# Altium footprint library Con CompactPCI.PcbLib: 33 footprints (part 2 of 3)
Each footprint in its own frame and in the unit in brackets; x right, y up, seen from the top. Pads: shape width x height; smd on the part's side, far side on the other; paste and mask are expansions set on the pad; w line width, h text height; cw(c..) or ccw(c..) is an arc to the next point about the centre after c.
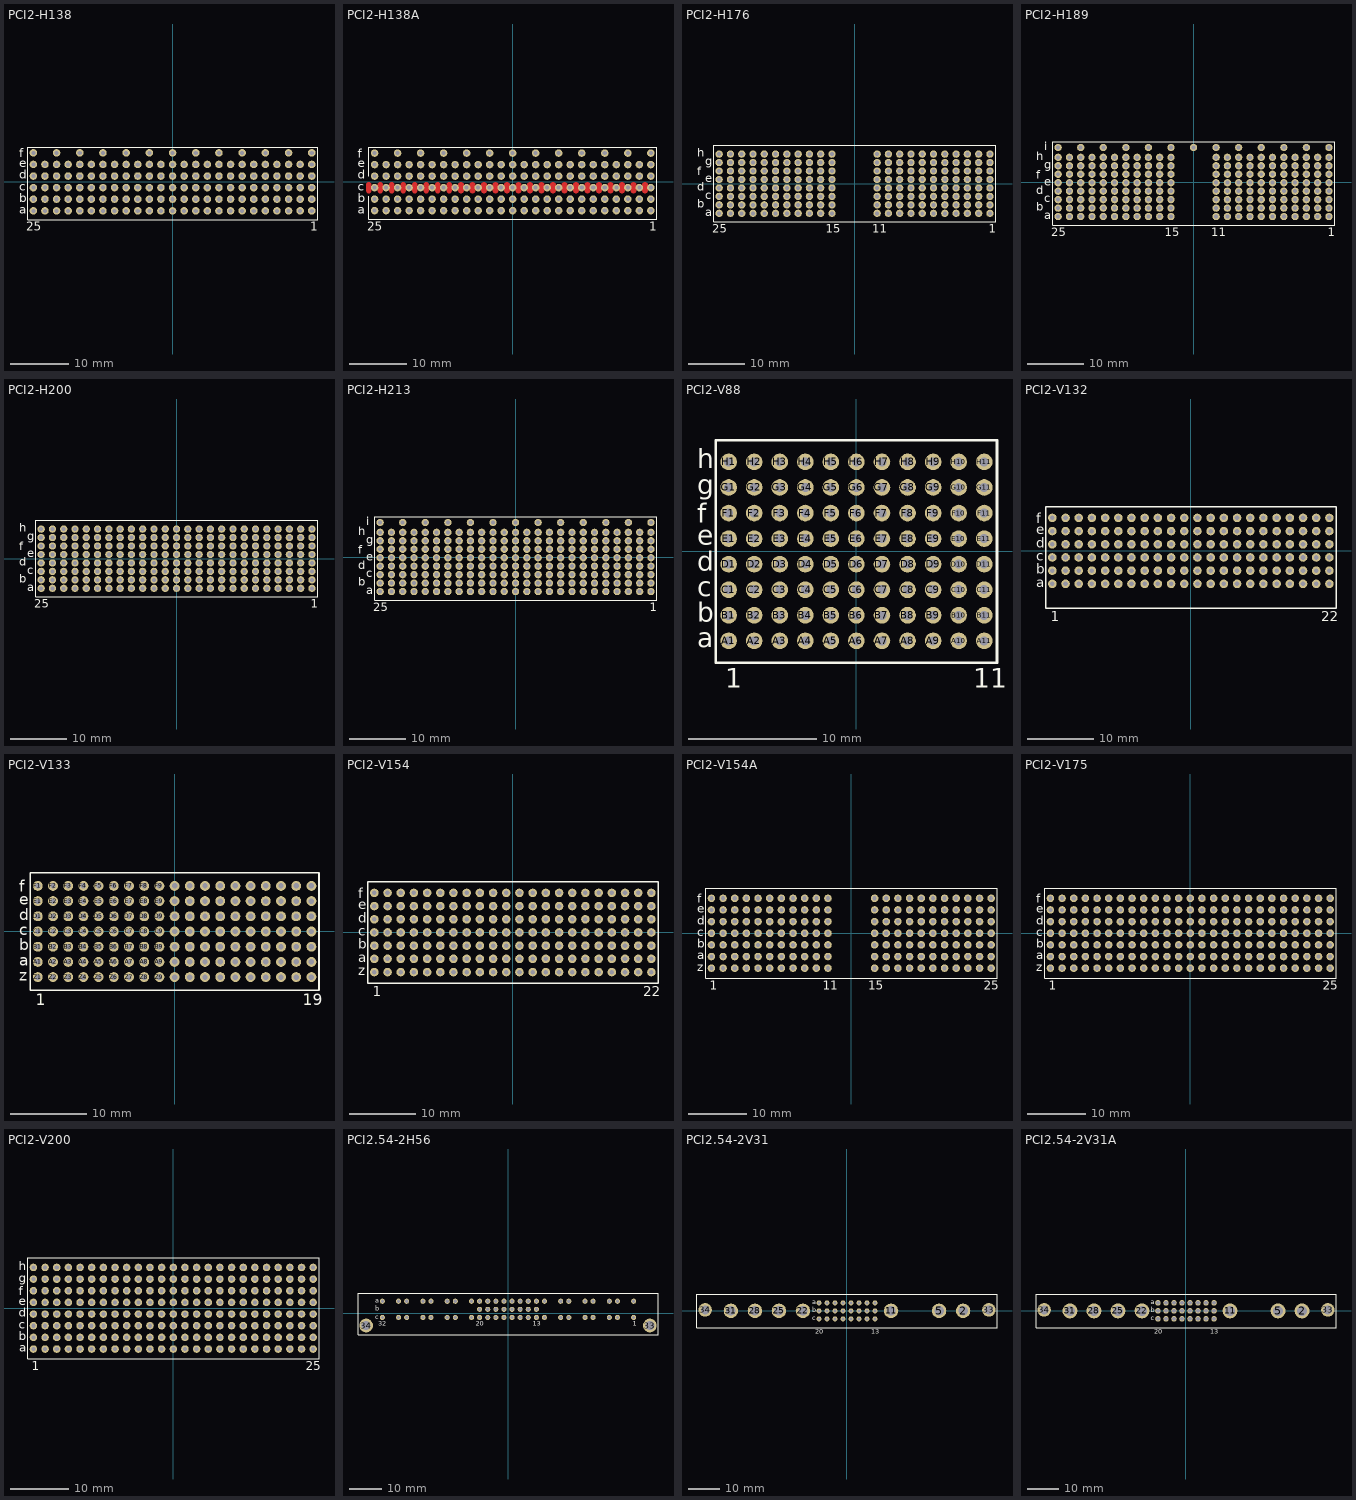
[diagram p1: the footprints below, top view; thin cyan lines are the x and y axes]

## PCI2-H138 [mm] "Connector; CompactPCI; 125 Position; Right Angle"
height 8.13
pads (138):
  round 1.3 hole 0.7: A1(24,-5) A2(22,-5) A3(20,-5) A4(18,-5) A5(16,-5) A6(14,-5) A7(12,-5) A8(10,-5) A9(8,-5) A10(6,-5) A11(4,-5) A12(2,-5) A13(0,-5) A14(-2,-5) A15(-4,-5) A16(-6,-5) A17(-8,-5) A18(-10,-5) A19(-12,-5) A20(-14,-5) A21(-16,-5) A22(-18,-5) A23(-20,-5) A24(-22,-5) A25(-24,-5) B1(24,-3) B2(22,-3) B3(20,-3) B4(18,-3) B5(16,-3) B6(14,-3) B7(12,-3) B8(10,-3) B9(8,-3) B10(6,-3) B11(4,-3) B12(2,-3) B13(0,-3) B14(-2,-3) B15(-4,-3) B16(-6,-3) B17(-8,-3) B18(-10,-3) B19(-12,-3) B20(-14,-3) B21(-16,-3) B22(-18,-3) B23(-20,-3) B24(-22,-3) B25(-24,-3) C1(24,-1) C2(22,-1) C3(20,-1) C4(18,-1) C5(16,-1) C6(14,-1) C7(12,-1) C8(10,-1) C9(8,-1) C10(6,-1) C11(4,-1) C12(2,-1) C13(0,-1) C14(-2,-1) C15(-4,-1) C16(-6,-1) C17(-8,-1) C18(-10,-1) C19(-12,-1) C20(-14,-1) C21(-16,-1) C22(-18,-1) C23(-20,-1) C24(-22,-1) C25(-24,-1) D1(24,1) D2(22,1) D3(20,1) D4(18,1) D5(16,1) D6(14,1) D7(12,1) D8(10,1) D9(8,1) D10(6,1) D11(4,1) D12(2,1) D13(0,1) D14(-2,1) D15(-4,1) D16(-6,1) D17(-8,1) D18(-10,1) D19(-12,1) D20(-14,1) D21(-16,1) D22(-18,1) D23(-20,1) D24(-22,1) D25(-24,1) E1(24,3) E2(22,3) E3(20,3) E4(18,3) E5(16,3) E6(14,3) E7(12,3) E8(10,3) E9(8,3) E10(6,3) E11(4,3) E12(2,3) E13(0,3) E14(-2,3) E15(-4,3) E16(-6,3) E17(-8,3) E18(-10,3) E19(-12,3) E20(-14,3) E21(-16,3) E22(-18,3) E23(-20,3) E24(-22,3) E25(-24,3) F1(24,5) F3(20,5) F5(16,5) F7(12,5) F9(8,5) F11(4,5) F13(0,5) F15(-4,5) F17(-8,5) F19(-12,5) F21(-16,5) F23(-20,5) F25(-24,5)
Top Overlay:
  lines w0.2: -25,-6.5 -25,6 25,6 25,-6.5 -25,-6.5
  text "25" at -25.25,-8.475 h1.5
  text "1" at 23.75,-8.475 h1.5
  text "e" at -26.475,2.5 h1.5
  text "d" at -26.475,0.5 h1.5
  text "c" at -26.475,-1.5 h1.5
  text "b" at -26.475,-3.5 h1.5
  text "a" at -26.475,-5.5 h1.5
  text "f" at -26.475,4.225 h1.5

## PCI2-H138A [mm] "Connector; CompactPCI; 125 Position; Right Angle"
height 8.13
pads (138):
  round 1.3 hole 0.7: A1(24,-5) A2(22,-5) A3(20,-5) A4(18,-5) A5(16,-5) A6(14,-5) A7(12,-5) A8(10,-5) A9(8,-5) A10(6,-5) A11(4,-5) A12(2,-5) A13(0,-5) A14(-2,-5) A15(-4,-5) A16(-6,-5) A17(-8,-5) A18(-10,-5) A19(-12,-5) A20(-14,-5) A21(-16,-5) A22(-18,-5) A23(-20,-5) A24(-22,-5) A25(-24,-5) B1(24,-3) B2(22,-3) B3(20,-3) B4(18,-3) B5(16,-3) B6(14,-3) B7(12,-3) B8(10,-3) B9(8,-3) B10(6,-3) B11(4,-3) B12(2,-3) B13(0,-3) B14(-2,-3) B15(-4,-3) B16(-6,-3) B17(-8,-3) B18(-10,-3) B19(-12,-3) B20(-14,-3) B21(-16,-3) B22(-18,-3) B23(-20,-3) B24(-22,-3) B25(-24,-3) C1(24,-1) C2(22,-1) C3(20,-1) C4(18,-1) C5(16,-1) C6(14,-1) C7(12,-1) C8(10,-1) C9(8,-1) C10(6,-1) C11(4,-1) C12(2,-1) C13(0,-1) C14(-2,-1) C15(-4,-1) C16(-6,-1) C17(-8,-1) C18(-10,-1) C19(-12,-1) C20(-14,-1) C21(-16,-1) C22(-18,-1) C23(-20,-1) C24(-22,-1) C25(-24,-1) D1(24,1) D2(22,1) D3(20,1) D4(18,1) D5(16,1) D6(14,1) D7(12,1) D8(10,1) D9(8,1) D10(6,1) D11(4,1) D12(2,1) D13(0,1) D14(-2,1) D15(-4,1) D16(-6,1) D17(-8,1) D18(-10,1) D19(-12,1) D20(-14,1) D21(-16,1) D22(-18,1) D23(-20,1) D24(-22,1) D25(-24,1) E1(24,3) E2(22,3) E3(20,3) E4(18,3) E5(16,3) E6(14,3) E7(12,3) E8(10,3) E9(8,3) E10(6,3) E11(4,3) E12(2,3) E13(0,3) E14(-2,3) E15(-4,3) E16(-6,3) E17(-8,3) E18(-10,3) E19(-12,3) E20(-14,3) E21(-16,3) E22(-18,3) E23(-20,3) E24(-22,3) E25(-24,3) F1(24,5) F3(20,5) F5(16,5) F7(12,5) F9(8,5) F11(4,5) F13(0,5) F15(-4,5) F17(-8,5) F19(-12,5) F21(-16,5) F23(-20,5) F25(-24,5)
Top Layer:
  lines w1: -25,-1.5 -25,-0.5 ; -23,-1.5 -23,-0.5 ; -21,-1.5 -21,-0.5 ; -19,-1.5 -19,-0.5 ; -17,-1.5 -17,-0.5 ; -15,-1.5 -15,-0.5 ; -13,-1.5 -13,-0.5 ; -11,-1.5 -11,-0.5 ; -9,-1.5 -9,-0.5 ; -7,-1.5 -7,-0.5 ; -5,-1.5 -5,-0.5 ; -3,-1.5 -3,-0.5 ; -1,-1.5 -1,-0.5 ; 1,-1.5 1,-0.5 ; 3,-1.5 3,-0.5 ; 5,-1.5 5,-0.5 ; 7,-1.5 7,-0.5 ; 9,-1.5 9,-0.5 ; 11,-1.5 11,-0.5 ; 13,-1.5 13,-0.5 ; 15,-1.5 15,-0.5 ; 17,-1.5 17,-0.5 ; 19,-1.5 19,-0.5 ; 21,-1.5 21,-0.5 ; 23,-1.5 23,-0.5
Top Overlay:
  lines w0.2: -25,-2.5 -25,-6.5 25,-6.5 25,6 -25,6 -25,1
  text "f" at -26.875,4.225 h1.5
  text "a" at -26.875,-5.5 h1.5
  text "b" at -26.875,-3.5 h1.5
  text "c" at -26.875,-1.5 h1.5
  text "d" at -26.875,0.5 h1.5
  text "e" at -26.875,2.5 h1.5
  text "1" at 23.75,-8.475 h1.5
  text "25" at -25.25,-8.475 h1.5

## PCI2-H176 [mm] "Connector; CompactPCI; 176 Position; Right Angle"
height 14.2
pads (176):
  round 1.3 hole 0.7: A1(24,-5.25) A2(22,-5.25) A3(20,-5.25) A4(18,-5.25) A5(16,-5.25) A6(14,-5.25) A7(12,-5.25) A8(10,-5.25) A9(8,-5.25) A10(6,-5.25) A11(4,-5.25) A15(-4,-5.25) A16(-6,-5.25) A17(-8,-5.25) A18(-10,-5.25) A19(-12,-5.25) A20(-14,-5.25) A21(-16,-5.25) A22(-18,-5.25) A23(-20,-5.25) A24(-22,-5.25) A25(-24,-5.25) B1(24,-3.75) B2(22,-3.75) B3(20,-3.75) B4(18,-3.75) B5(16,-3.75) B6(14,-3.75) B7(12,-3.75) B8(10,-3.75) B9(8,-3.75) B10(6,-3.75) B11(4,-3.75) B15(-4,-3.75) B16(-6,-3.75) B17(-8,-3.75) B18(-10,-3.75) B19(-12,-3.75) B20(-14,-3.75) B21(-16,-3.75) B22(-18,-3.75) B23(-20,-3.75) B24(-22,-3.75) B25(-24,-3.75) C1(24,-2.25) C2(22,-2.25) C3(20,-2.25) C4(18,-2.25) C5(16,-2.25) C6(14,-2.25) C7(12,-2.25) C8(10,-2.25) C9(8,-2.25) C10(6,-2.25) C11(4,-2.25) C15(-4,-2.25) C16(-6,-2.25) C17(-8,-2.25) C18(-10,-2.25) C19(-12,-2.25) C20(-14,-2.25) C21(-16,-2.25) C22(-18,-2.25) C23(-20,-2.25) C24(-22,-2.25) C25(-24,-2.25) D1(24,-0.75) D2(22,-0.75) D3(20,-0.75) D4(18,-0.75) D5(16,-0.75) D6(14,-0.75) D7(12,-0.75) D8(10,-0.75) D9(8,-0.75) D10(6,-0.75) D11(4,-0.75) D15(-4,-0.75) D16(-6,-0.75) D17(-8,-0.75) D18(-10,-0.75) D19(-12,-0.75) D20(-14,-0.75) D21(-16,-0.75) D22(-18,-0.75) D23(-20,-0.75) D24(-22,-0.75) D25(-24,-0.75) E1(24,0.75) E2(22,0.75) E3(20,0.75) E4(18,0.75) E5(16,0.75) E6(14,0.75) E7(12,0.75) E8(10,0.75) E9(8,0.75) E10(6,0.75) E11(4,0.75) E15(-4,0.75) E16(-6,0.75) E17(-8,0.75) E18(-10,0.75) E19(-12,0.75) E20(-14,0.75) E21(-16,0.75) E22(-18,0.75) E23(-20,0.75) E24(-22,0.75) E25(-24,0.75) F1(24,2.25) F2(22,2.25) F3(20,2.25) F4(18,2.25) F5(16,2.25) F6(14,2.25) F7(12,2.25) F8(10,2.25) F9(8,2.25) F10(6,2.25) F11(4,2.25) F15(-4,2.25) F16(-6,2.25) F17(-8,2.25) F18(-10,2.25) F19(-12,2.25) F20(-14,2.25) F21(-16,2.25) F22(-18,2.25) F23(-20,2.25) F24(-22,2.25) F25(-24,2.25) G1(24,3.75) G2(22,3.75) G3(20,3.75) G4(18,3.75) G5(16,3.75) G6(14,3.75) G7(12,3.75) G8(10,3.75) G9(8,3.75) G10(6,3.75) G11(4,3.75) G15(-4,3.75) G16(-6,3.75) G17(-8,3.75) G18(-10,3.75) G19(-12,3.75) G20(-14,3.75) G21(-16,3.75) G22(-18,3.75) G23(-20,3.75) G24(-22,3.75) G25(-24,3.75) H1(24,5.25) H2(22,5.25) H3(20,5.25) H4(18,5.25) H5(16,5.25) H6(14,5.25) H7(12,5.25) H8(10,5.25) H9(8,5.25) H10(6,5.25) H11(4,5.25) H15(-4,5.25) H16(-6,5.25) H17(-8,5.25) H18(-10,5.25) H19(-12,5.25) H20(-14,5.25) H21(-16,5.25) H22(-18,5.25) H23(-20,5.25) H24(-22,5.25) H25(-24,5.25)
Top Overlay:
  lines w0.2: -25,-6.75 -25,6.85 25,6.85 25,-6.75 -25,-6.75
  text "a" at -26.475,-5.75 h1.5
  text "b" at -27.925,-4.25 h1.5
  text "c" at -26.475,-2.75 h1.5
  text "e" at -26.475,0.25 h1.5
  text "g" at -26.475,3.237 h1.5
  text "d" at -27.925,-1.25 h1.5
  text "f" at -27.925,1.475 h1.5
  text "h" at -27.925,4.75 h1.5
  text "11" at 3.125,-8.725 h1.5
  text "1" at 23.75,-8.725 h1.5
  text "15" at -5.125,-8.725 h1.5
  text "25" at -25.25,-8.725 h1.5

## PCI2-H189 [mm] "Connector; CompactPCI; 176 Position; Right Angle"
height 14.2
pads (189):
  round 1.3 hole 0.7: A1(24,-6.125) A2(22,-6.125) A3(20,-6.125) A4(18,-6.125) A5(16,-6.125) A6(14,-6.125) A7(12,-6.125) A8(10,-6.125) A9(8,-6.125) A10(6,-6.125) A11(4,-6.125) A15(-4,-6.125) A16(-6,-6.125) A17(-8,-6.125) A18(-10,-6.125) A19(-12,-6.125) A20(-14,-6.125) A21(-16,-6.125) A22(-18,-6.125) A23(-20,-6.125) A24(-22,-6.125) A25(-24,-6.125) B1(24,-4.625) B2(22,-4.625) B3(20,-4.625) B4(18,-4.625) B5(16,-4.625) B6(14,-4.625) B7(12,-4.625) B8(10,-4.625) B9(8,-4.625) B10(6,-4.625) B11(4,-4.625) B15(-4,-4.625) B16(-6,-4.625) B17(-8,-4.625) B18(-10,-4.625) B19(-12,-4.625) B20(-14,-4.625) B21(-16,-4.625) B22(-18,-4.625) B23(-20,-4.625) B24(-22,-4.625) B25(-24,-4.625) C1(24,-3.125) C2(22,-3.125) C3(20,-3.125) C4(18,-3.125) C5(16,-3.125) C6(14,-3.125) C7(12,-3.125) C8(10,-3.125) C9(8,-3.125) C10(6,-3.125) C11(4,-3.125) C15(-4,-3.125) C16(-6,-3.125) C17(-8,-3.125) C18(-10,-3.125) C19(-12,-3.125) C20(-14,-3.125) C21(-16,-3.125) C22(-18,-3.125) C23(-20,-3.125) C24(-22,-3.125) C25(-24,-3.125) D1(24,-1.625) D2(22,-1.625) D3(20,-1.625) D4(18,-1.625) D5(16,-1.625) D6(14,-1.625) D7(12,-1.625) D8(10,-1.625) D9(8,-1.625) D10(6,-1.625) D11(4,-1.625) D15(-4,-1.625) D16(-6,-1.625) D17(-8,-1.625) D18(-10,-1.625) D19(-12,-1.625) D20(-14,-1.625) D21(-16,-1.625) D22(-18,-1.625) D23(-20,-1.625) D24(-22,-1.625) D25(-24,-1.625) E1(24,-0.125) E2(22,-0.125) E3(20,-0.125) E4(18,-0.125) E5(16,-0.125) E6(14,-0.125) E7(12,-0.125) E8(10,-0.125) E9(8,-0.125) E10(6,-0.125) E11(4,-0.125) E15(-4,-0.125) E16(-6,-0.125) E17(-8,-0.125) E18(-10,-0.125) E19(-12,-0.125) E20(-14,-0.125) E21(-16,-0.125) E22(-18,-0.125) E23(-20,-0.125) E24(-22,-0.125) E25(-24,-0.125) F1(24,1.375) F2(22,1.375) F3(20,1.375) F4(18,1.375) F5(16,1.375) F6(14,1.375) F7(12,1.375) F8(10,1.375) F9(8,1.375) F10(6,1.375) F11(4,1.375) F15(-4,1.375) F16(-6,1.375) F17(-8,1.375) F18(-10,1.375) F19(-12,1.375) F20(-14,1.375) F21(-16,1.375) F22(-18,1.375) F23(-20,1.375) F24(-22,1.375) F25(-24,1.375) G1(24,2.875) G2(22,2.875) G3(20,2.875) G4(18,2.875) G5(16,2.875) G6(14,2.875) G7(12,2.875) G8(10,2.875) G9(8,2.875) G10(6,2.875) G11(4,2.875) G15(-4,2.875) G16(-6,2.875) G17(-8,2.875) G18(-10,2.875) G19(-12,2.875) G20(-14,2.875) G21(-16,2.875) G22(-18,2.875) G23(-20,2.875) G24(-22,2.875) G25(-24,2.875) H1(24,4.375) H2(22,4.375) H3(20,4.375) H4(18,4.375) H5(16,4.375) H6(14,4.375) H7(12,4.375) H8(10,4.375) H9(8,4.375) H10(6,4.375) H11(4,4.375) H15(-4,4.375) H16(-6,4.375) H17(-8,4.375) H18(-10,4.375) H19(-12,4.375) H20(-14,4.375) H21(-16,4.375) H22(-18,4.375) H23(-20,4.375) H24(-22,4.375) H25(-24,4.375) I1(24,6.125) I3(20,6.125) I5(16,6.125) I7(12,6.125) I9(8,6.125) I11(4,6.125) I13(0,6.125) I15(-4,6.125) I17(-8,6.125) I19(-12,6.125) I21(-16,6.125) I23(-20,6.125) I25(-24,6.125)
Top Overlay:
  lines w0.2: -25,-7.625 -25,7.105 25,7.105 25,-7.625 -25,-7.625
  text "i" at -26.475,5.625 h1.5
  text "a" at -26.475,-6.625 h1.5
  text "b" at -27.925,-5.125 h1.5
  text "c" at -26.475,-3.625 h1.5
  text "e" at -26.475,-0.625 h1.5
  text "g" at -26.475,2.363 h1.5
  text "d" at -27.925,-2.125 h1.5
  text "f" at -27.925,0.6 h1.5
  text "h" at -27.925,3.875 h1.5
  text "11" at 3.125,-9.6 h1.5
  text "1" at 23.75,-9.6 h1.5
  text "15" at -5.125,-9.6 h1.5
  text "25" at -25.25,-9.6 h1.5

## PCI2-H200 [mm] "Connector; CompactPCI; 200 Position; Right Angle"
height 13.7
pads (200):
  round 1.3 hole 0.7: A1(24,-5.25) A2(22,-5.25) A3(20,-5.25) A4(18,-5.25) A5(16,-5.25) A6(14,-5.25) A7(12,-5.25) A8(10,-5.25) A9(8,-5.25) A10(6,-5.25) A11(4,-5.25) A12(2,-5.25) A13(0,-5.25) A14(-2,-5.25) A15(-4,-5.25) A16(-6,-5.25) A17(-8,-5.25) A18(-10,-5.25) A19(-12,-5.25) A20(-14,-5.25) A21(-16,-5.25) A22(-18,-5.25) A23(-20,-5.25) A24(-22,-5.25) A25(-24,-5.25) B1(24,-3.75) B2(22,-3.75) B3(20,-3.75) B4(18,-3.75) B5(16,-3.75) B6(14,-3.75) B7(12,-3.75) B8(10,-3.75) B9(8,-3.75) B10(6,-3.75) B11(4,-3.75) B12(2,-3.75) B13(0,-3.75) B14(-2,-3.75) B15(-4,-3.75) B16(-6,-3.75) B17(-8,-3.75) B18(-10,-3.75) B19(-12,-3.75) B20(-14,-3.75) B21(-16,-3.75) B22(-18,-3.75) B23(-20,-3.75) B24(-22,-3.75) B25(-24,-3.75) C1(24,-2.25) C2(22,-2.25) C3(20,-2.25) C4(18,-2.25) C5(16,-2.25) C6(14,-2.25) C7(12,-2.25) C8(10,-2.25) C9(8,-2.25) C10(6,-2.25) C11(4,-2.25) C12(2,-2.25) C13(0,-2.25) C14(-2,-2.25) C15(-4,-2.25) C16(-6,-2.25) C17(-8,-2.25) C18(-10,-2.25) C19(-12,-2.25) C20(-14,-2.25) C21(-16,-2.25) C22(-18,-2.25) C23(-20,-2.25) C24(-22,-2.25) C25(-24,-2.25) D1(24,-0.75) D2(22,-0.75) D3(20,-0.75) D4(18,-0.75) D5(16,-0.75) D6(14,-0.75) D7(12,-0.75) D8(10,-0.75) D9(8,-0.75) D10(6,-0.75) D11(4,-0.75) D12(2,-0.75) D13(0,-0.75) D14(-2,-0.75) D15(-4,-0.75) D16(-6,-0.75) D17(-8,-0.75) D18(-10,-0.75) D19(-12,-0.75) D20(-14,-0.75) D21(-16,-0.75) D22(-18,-0.75) D23(-20,-0.75) D24(-22,-0.75) D25(-24,-0.75) E1(24,0.75) E2(22,0.75) E3(20,0.75) E4(18,0.75) E5(16,0.75) E6(14,0.75) E7(12,0.75) E8(10,0.75) E9(8,0.75) E10(6,0.75) E11(4,0.75) E12(2,0.75) E13(0,0.75) E14(-2,0.75) E15(-4,0.75) E16(-6,0.75) E17(-8,0.75) E18(-10,0.75) E19(-12,0.75) E20(-14,0.75) E21(-16,0.75) E22(-18,0.75) E23(-20,0.75) E24(-22,0.75) E25(-24,0.75) F1(24,2.25) F2(22,2.25) F3(20,2.25) F4(18,2.25) F5(16,2.25) F6(14,2.25) F7(12,2.25) F8(10,2.25) F9(8,2.25) F10(6,2.25) F11(4,2.25) F12(2,2.25) F13(0,2.25) F14(-2,2.25) F15(-4,2.25) F16(-6,2.25) F17(-8,2.25) F18(-10,2.25) F19(-12,2.25) F20(-14,2.25) F21(-16,2.25) F22(-18,2.25) F23(-20,2.25) F24(-22,2.25) F25(-24,2.25) G1(24,3.75) G2(22,3.75) G3(20,3.75) G4(18,3.75) G5(16,3.75) G6(14,3.75) G7(12,3.75) G8(10,3.75) G9(8,3.75) G10(6,3.75) G11(4,3.75) G12(2,3.75) G13(0,3.75) G14(-2,3.75) G15(-4,3.75) G16(-6,3.75) G17(-8,3.75) G18(-10,3.75) G19(-12,3.75) G20(-14,3.75) G21(-16,3.75) G22(-18,3.75) G23(-20,3.75) G24(-22,3.75) G25(-24,3.75) H1(24,5.25) H2(22,5.25) H3(20,5.25) H4(18,5.25) H5(16,5.25) H6(14,5.25) H7(12,5.25) H8(10,5.25) H9(8,5.25) H10(6,5.25) H11(4,5.25) H12(2,5.25) H13(0,5.25) H14(-2,5.25) H15(-4,5.25) H16(-6,5.25) H17(-8,5.25) H18(-10,5.25) H19(-12,5.25) H20(-14,5.25) H21(-16,5.25) H22(-18,5.25) H23(-20,5.25) H24(-22,5.25) H25(-24,5.25)
Top Overlay:
  lines w0.2: -25,-6.75 -25,6.85 25,6.85 25,-6.75 -25,-6.75
  text "1" at 23.75,-8.725 h1.5
  text "25" at -25.25,-8.725 h1.5
  text "a" at -26.475,-5.75 h1.5
  text "b" at -27.925,-4.25 h1.5
  text "c" at -26.475,-2.75 h1.5
  text "e" at -26.475,0.25 h1.5
  text "g" at -26.475,3.238 h1.5
  text "d" at -27.925,-1.25 h1.5
  text "f" at -27.925,1.475 h1.5
  text "h" at -27.925,4.75 h1.5

## PCI2-H213 [mm] "Connector; CompactPCI; 200 Position; Right Angle"
height 13.7
pads (213):
  round 1.3 hole 0.7: A1(24,-6.125) A2(22,-6.125) A3(20,-6.125) A4(18,-6.125) A5(16,-6.125) A6(14,-6.125) A7(12,-6.125) A8(10,-6.125) A9(8,-6.125) A10(6,-6.125) A11(4,-6.125) A12(2,-6.125) A13(0,-6.125) A14(-2,-6.125) A15(-4,-6.125) A16(-6,-6.125) A17(-8,-6.125) A18(-10,-6.125) A19(-12,-6.125) A20(-14,-6.125) A21(-16,-6.125) A22(-18,-6.125) A23(-20,-6.125) A24(-22,-6.125) A25(-24,-6.125) B1(24,-4.625) B2(22,-4.625) B3(20,-4.625) B4(18,-4.625) B5(16,-4.625) B6(14,-4.625) B7(12,-4.625) B8(10,-4.625) B9(8,-4.625) B10(6,-4.625) B11(4,-4.625) B12(2,-4.625) B13(0,-4.625) B14(-2,-4.625) B15(-4,-4.625) B16(-6,-4.625) B17(-8,-4.625) B18(-10,-4.625) B19(-12,-4.625) B20(-14,-4.625) B21(-16,-4.625) B22(-18,-4.625) B23(-20,-4.625) B24(-22,-4.625) B25(-24,-4.625) C1(24,-3.125) C2(22,-3.125) C3(20,-3.125) C4(18,-3.125) C5(16,-3.125) C6(14,-3.125) C7(12,-3.125) C8(10,-3.125) C9(8,-3.125) C10(6,-3.125) C11(4,-3.125) C12(2,-3.125) C13(0,-3.125) C14(-2,-3.125) C15(-4,-3.125) C16(-6,-3.125) C17(-8,-3.125) C18(-10,-3.125) C19(-12,-3.125) C20(-14,-3.125) C21(-16,-3.125) C22(-18,-3.125) C23(-20,-3.125) C24(-22,-3.125) C25(-24,-3.125) D1(24,-1.625) D2(22,-1.625) D3(20,-1.625) D4(18,-1.625) D5(16,-1.625) D6(14,-1.625) D7(12,-1.625) D8(10,-1.625) D9(8,-1.625) D10(6,-1.625) D11(4,-1.625) D12(2,-1.625) D13(0,-1.625) D14(-2,-1.625) D15(-4,-1.625) D16(-6,-1.625) D17(-8,-1.625) D18(-10,-1.625) D19(-12,-1.625) D20(-14,-1.625) D21(-16,-1.625) D22(-18,-1.625) D23(-20,-1.625) D24(-22,-1.625) D25(-24,-1.625) E1(24,-0.125) E2(22,-0.125) E3(20,-0.125) E4(18,-0.125) E5(16,-0.125) E6(14,-0.125) E7(12,-0.125) E8(10,-0.125) E9(8,-0.125) E10(6,-0.125) E11(4,-0.125) E12(2,-0.125) E13(0,-0.125) E14(-2,-0.125) E15(-4,-0.125) E16(-6,-0.125) E17(-8,-0.125) E18(-10,-0.125) E19(-12,-0.125) E20(-14,-0.125) E21(-16,-0.125) E22(-18,-0.125) E23(-20,-0.125) E24(-22,-0.125) E25(-24,-0.125) F1(24,1.375) F2(22,1.375) F3(20,1.375) F4(18,1.375) F5(16,1.375) F6(14,1.375) F7(12,1.375) F8(10,1.375) F9(8,1.375) F10(6,1.375) F11(4,1.375) F12(2,1.375) F13(0,1.375) F14(-2,1.375) F15(-4,1.375) F16(-6,1.375) F17(-8,1.375) F18(-10,1.375) F19(-12,1.375) F20(-14,1.375) F21(-16,1.375) F22(-18,1.375) F23(-20,1.375) F24(-22,1.375) F25(-24,1.375) G1(24,2.875) G2(22,2.875) G3(20,2.875) G4(18,2.875) G5(16,2.875) G6(14,2.875) G7(12,2.875) G8(10,2.875) G9(8,2.875) G10(6,2.875) G11(4,2.875) G12(2,2.875) G13(0,2.875) G14(-2,2.875) G15(-4,2.875) G16(-6,2.875) G17(-8,2.875) G18(-10,2.875) G19(-12,2.875) G20(-14,2.875) G21(-16,2.875) G22(-18,2.875) G23(-20,2.875) G24(-22,2.875) G25(-24,2.875) H1(24,4.375) H2(22,4.375) H3(20,4.375) H4(18,4.375) H5(16,4.375) H6(14,4.375) H7(12,4.375) H8(10,4.375) H9(8,4.375) H10(6,4.375) H11(4,4.375) H12(2,4.375) H13(0,4.375) H14(-2,4.375) H15(-4,4.375) H16(-6,4.375) H17(-8,4.375) H18(-10,4.375) H19(-12,4.375) H20(-14,4.375) H21(-16,4.375) H22(-18,4.375) H23(-20,4.375) H24(-22,4.375) H25(-24,4.375) I1(24,6.125) I3(20,6.125) I5(16,6.125) I7(12,6.125) I9(8,6.125) I11(4,6.125) I13(0,6.125) I15(-4,6.125) I17(-8,6.125) I19(-12,6.125) I21(-16,6.125) I23(-20,6.125) I25(-24,6.125)
Top Overlay:
  lines w0.2: -25,-7.625 25,-7.625 25,7.1 -25,7.1 -25,-7.625
  text "g" at -26.475,2.363 h1.5
  text "i" at -26.475,5.625 h1.5
  text "h" at -27.925,3.875 h1.5
  text "f" at -27.925,0.6 h1.5
  text "d" at -27.925,-2.125 h1.5
  text "e" at -26.475,-0.625 h1.5
  text "c" at -26.475,-3.625 h1.5
  text "b" at -27.925,-5.125 h1.5
  text "a" at -26.475,-6.625 h1.5
  text "25" at -25.25,-9.6 h1.5
  text "1" at 23.75,-9.6 h1.5

## PCI2-V88 [mm] "Connector; CompactPCI; 88 Position; Vertical"
height 13.95
pads (88):
  round 1.3 hole 0.7: A1(-10,-7) A2(-8,-7) A3(-6,-7) A4(-4,-7) A5(-2,-7) A6(0,-7) A7(2,-7) A8(4,-7) A9(6,-7) A10(8,-7) A11(10,-7) B1(-10,-5) B2(-8,-5) B3(-6,-5) B4(-4,-5) B5(-2,-5) B6(0,-5) B7(2,-5) B8(4,-5) B9(6,-5) B10(8,-5) B11(10,-5) C1(-10,-3) C2(-8,-3) C3(-6,-3) C4(-4,-3) C5(-2,-3) C6(0,-3) C7(2,-3) C8(4,-3) C9(6,-3) C10(8,-3) C11(10,-3) D1(-10,-1) D2(-8,-1) D3(-6,-1) D4(-4,-1) D5(-2,-1) D6(0,-1) D7(2,-1) D8(4,-1) D9(6,-1) D10(8,-1) D11(10,-1) E1(-10,1) E2(-8,1) E3(-6,1) E4(-4,1) E5(-2,1) E6(0,1) E7(2,1) E8(4,1) E9(6,1) E10(8,1) E11(10,1) F1(-10,3) F2(-8,3) F3(-6,3) F4(-4,3) F5(-2,3) F6(0,3) F7(2,3) F8(4,3) F9(6,3) F10(8,3) F11(10,3) G1(-10,5) G2(-8,5) G3(-6,5) G4(-4,5) G5(-2,5) G6(0,5) G7(2,5) G8(4,5) G9(6,5) G10(8,5) G11(10,5) H1(-10,7) H2(-8,7) H3(-6,7) H4(-4,7) H5(-2,7) H6(0,7) H7(2,7) H8(4,7) H9(6,7) H10(8,7) H11(10,7)
Top Overlay:
  lines w0.2: -11,-8.7 11,-8.7 11,8.7 -11,8.7 -11,-8.7
  text "a" at -12.475,-7.5 h1.5
  text "h" at -12.475,6.5 h1.5
  text "b" at -12.475,-5.5 h1.5
  text "c" at -12.475,-3.5 h1.5
  text "d" at -12.475,-1.5 h1.5
  text "e" at -12.475,0.5 h1.5
  text "f" at -12.475,2.225 h1.5
  text "g" at -12.475,4.488 h1.5
  text "11" at 9.125,-10.675 h1.5
  text "1" at -10.25,-10.675 h1.5

## PCI2-V132 [mm] "Connector; CompactPCI; 132 Position; Vertical"
height 13.45
pads (132):
  round 1.3 hole 0.7: A1(-21,-5) A2(-19,-5) A3(-17,-5) A4(-15,-5) A5(-13,-5) A6(-11,-5) A7(-9,-5) A8(-7,-5) A9(-5,-5) A10(-3,-5) A11(-1,-5) A12(1,-5) A13(3,-5) A14(5,-5) A15(7,-5) A16(9,-5) A17(11,-5) A18(13,-5) A19(15,-5) A20(17,-5) A21(19,-5) A22(21,-5) B1(-21,-3) B2(-19,-3) B3(-17,-3) B4(-15,-3) B5(-13,-3) B6(-11,-3) B7(-9,-3) B8(-7,-3) B9(-5,-3) B10(-3,-3) B11(-1,-3) B12(1,-3) B13(3,-3) B14(5,-3) B15(7,-3) B16(9,-3) B17(11,-3) B18(13,-3) B19(15,-3) B20(17,-3) B21(19,-3) B22(21,-3) C1(-21,-1) C2(-19,-1) C3(-17,-1) C4(-15,-1) C5(-13,-1) C6(-11,-1) C7(-9,-1) C8(-7,-1) C9(-5,-1) C10(-3,-1) C11(-1,-1) C12(1,-1) C13(3,-1) C14(5,-1) C15(7,-1) C16(9,-1) C17(11,-1) C18(13,-1) C19(15,-1) C20(17,-1) C21(19,-1) C22(21,-1) D1(-21,1) D2(-19,1) D3(-17,1) D4(-15,1) D5(-13,1) D6(-11,1) D7(-9,1) D8(-7,1) D9(-5,1) D10(-3,1) D11(-1,1) D12(1,1) D13(3,1) D14(5,1) D15(7,1) D16(9,1) D17(11,1) D18(13,1) D19(15,1) D20(17,1) D21(19,1) D22(21,1) E1(-21,3) E2(-19,3) E3(-17,3) E4(-15,3) E5(-13,3) E6(-11,3) E7(-9,3) E8(-7,3) E9(-5,3) E10(-3,3) E11(-1,3) E12(1,3) E13(3,3) E14(5,3) E15(7,3) E16(9,3) E17(11,3) E18(13,3) E19(15,3) E20(17,3) E21(19,3) E22(21,3) F1(-21,5) F2(-19,5) F3(-17,5) F4(-15,5) F5(-13,5) F6(-11,5) F7(-9,5) F8(-7,5) F9(-5,5) F10(-3,5) F11(-1,5) F12(1,5) F13(3,5) F14(5,5) F15(7,5) F16(9,5) F17(11,5) F18(13,5) F19(15,5) F20(17,5) F21(19,5) F22(21,5)
Top Overlay:
  lines w0.2: -22,-8.7 22,-8.7 22,6.7 -22,6.7 -22,-8.7
  text "1" at -21.25,-10.675 h1.5
  text "22" at 19.75,-10.675 h1.5
  text "a" at -23.475,-5.5 h1.5
  text "b" at -23.475,-3.5 h1.5
  text "c" at -23.475,-1.5 h1.5
  text "d" at -23.475,0.5 h1.5
  text "e" at -23.475,2.5 h1.5
  text "f" at -23.475,4.225 h1.5

## PCI2-V133 [mm] "Connector; CompactPCI; 133 Position; Vertical"
height 13.45
pads (133):
  round 1.3 hole 0.7: A1(-18,-4) A2(-16,-4) A3(-14,-4) A4(-12,-4) A5(-10,-4) A6(-8,-4) A7(-6,-4) A8(-4,-4) A9(-2,-4) A10(0,-4) A11(2,-4) A12(4,-4) A13(6,-4) A14(8,-4) A15(10,-4) A16(12,-4) A17(14,-4) A18(16,-4) A19(18,-4) B1(-18,-2) B2(-16,-2) B3(-14,-2) B4(-12,-2) B5(-10,-2) B6(-8,-2) B7(-6,-2) B8(-4,-2) B9(-2,-2) B10(0,-2) B11(2,-2) B12(4,-2) B13(6,-2) B14(8,-2) B15(10,-2) B16(12,-2) B17(14,-2) B18(16,-2) B19(18,-2) C1(-18,0) C2(-16,0) C3(-14,0) C4(-12,0) C5(-10,0) C6(-8,0) C7(-6,0) C8(-4,0) C9(-2,0) C10(0,0) C11(2,0) C12(4,0) C13(6,0) C14(8,0) C15(10,0) C16(12,0) C17(14,0) C18(16,0) C19(18,0) D1(-18,2) D2(-16,2) D3(-14,2) D4(-12,2) D5(-10,2) D6(-8,2) D7(-6,2) D8(-4,2) D9(-2,2) D10(0,2) D11(2,2) D12(4,2) D13(6,2) D14(8,2) D15(10,2) D16(12,2) D17(14,2) D18(16,2) D19(18,2) E1(-18,4) E2(-16,4) E3(-14,4) E4(-12,4) E5(-10,4) E6(-8,4) E7(-6,4) E8(-4,4) E9(-2,4) E10(0,4) E11(2,4) E12(4,4) E13(6,4) E14(8,4) E15(10,4) E16(12,4) E17(14,4) E18(16,4) E19(18,4) F1(-18,6) F2(-16,6) F3(-14,6) F4(-12,6) F5(-10,6) F6(-8,6) F7(-6,6) F8(-4,6) F9(-2,6) F10(0,6) F11(2,6) F12(4,6) F13(6,6) F14(8,6) F15(10,6) F16(12,6) F17(14,6) F18(16,6) F19(18,6) Z1(-18,-6) Z2(-16,-6) Z3(-14,-6) Z4(-12,-6) Z5(-10,-6) Z6(-8,-6) Z7(-6,-6) Z8(-4,-6) Z9(-2,-6) Z10(0,-6) Z11(2,-6) Z12(4,-6) Z13(6,-6) Z14(8,-6) Z15(10,-6) Z16(12,-6) Z17(14,-6) Z18(16,-6) Z19(18,-6)
Top Overlay:
  lines w0.2: -19,-7.7 -19,7.7 19,7.7 19,-7.7 -19,-7.7
  text "19" at 16.875,-9.675 h1.5
  text "1" at -18.25,-9.675 h1.5
  text "f" at -20.475,5.225 h1.5
  text "e" at -20.475,3.5 h1.5
  text "d" at -20.475,1.5 h1.5
  text "c" at -20.475,-0.5 h1.5
  text "b" at -20.475,-2.5 h1.5
  text "a" at -20.475,-4.5 h1.5
  text "z" at -20.475,-6.5 h1.5

## PCI2-V154 [mm] "Connector; CompactPCI; 154 Position; Vertical"
height 13.45
pads (154):
  round 1.3 hole 0.7: A1(-21,-4) A2(-19,-4) A3(-17,-4) A4(-15,-4) A5(-13,-4) A6(-11,-4) A7(-9,-4) A8(-7,-4) A9(-5,-4) A10(-3,-4) A11(-1,-4) A12(1,-4) A13(3,-4) A14(5,-4) A15(7,-4) A16(9,-4) A17(11,-4) A18(13,-4) A19(15,-4) A20(17,-4) A21(19,-4) A22(21,-4) B1(-21,-2) B2(-19,-2) B3(-17,-2) B4(-15,-2) B5(-13,-2) B6(-11,-2) B7(-9,-2) B8(-7,-2) B9(-5,-2) B10(-3,-2) B11(-1,-2) B12(1,-2) B13(3,-2) B14(5,-2) B15(7,-2) B16(9,-2) B17(11,-2) B18(13,-2) B19(15,-2) B20(17,-2) B21(19,-2) B22(21,-2) C1(-21,0) C2(-19,0) C3(-17,0) C4(-15,0) C5(-13,0) C6(-11,0) C7(-9,0) C8(-7,0) C9(-5,0) C10(-3,0) C11(-1,0) C12(1,0) C13(3,0) C14(5,0) C15(7,0) C16(9,0) C17(11,0) C18(13,0) C19(15,0) C20(17,0) C21(19,0) C22(21,0) D1(-21,2) D2(-19,2) D3(-17,2) D4(-15,2) D5(-13,2) D6(-11,2) D7(-9,2) D8(-7,2) D9(-5,2) D10(-3,2) D11(-1,2) D12(1,2) D13(3,2) D14(5,2) D15(7,2) D16(9,2) D17(11,2) D18(13,2) D19(15,2) D20(17,2) D21(19,2) D22(21,2) E1(-21,4) E2(-19,4) E3(-17,4) E4(-15,4) E5(-13,4) E6(-11,4) E7(-9,4) E8(-7,4) E9(-5,4) E10(-3,4) E11(-1,4) E12(1,4) E13(3,4) E14(5,4) E15(7,4) E16(9,4) E17(11,4) E18(13,4) E19(15,4) E20(17,4) E21(19,4) E22(21,4) F1(-21,6) F2(-19,6) F3(-17,6) F4(-15,6) F5(-13,6) F6(-11,6) F7(-9,6) F8(-7,6) F9(-5,6) F10(-3,6) F11(-1,6) F12(1,6) F13(3,6) F14(5,6) F15(7,6) F16(9,6) F17(11,6) F18(13,6) F19(15,6) F20(17,6) F21(19,6) F22(21,6) Z1(-21,-6) Z2(-19,-6) Z3(-17,-6) Z4(-15,-6) Z5(-13,-6) Z6(-11,-6) Z7(-9,-6) Z8(-7,-6) Z9(-5,-6) Z10(-3,-6) Z11(-1,-6) Z12(1,-6) Z13(3,-6) Z14(5,-6) Z15(7,-6) Z16(9,-6) Z17(11,-6) Z18(13,-6) Z19(15,-6) Z20(17,-6) Z21(19,-6) Z22(21,-6)
Top Overlay:
  lines w0.2: -22,-7.7 -22,7.7 22,7.7 22,-7.7 -22,-7.7
  text "f" at -23.475,5.225 h1.5
  text "e" at -23.475,3.5 h1.5
  text "d" at -23.475,1.5 h1.5
  text "c" at -23.475,-0.5 h1.5
  text "b" at -23.475,-2.5 h1.5
  text "a" at -23.475,-4.5 h1.5
  text "z" at -23.475,-6.5 h1.5
  text "22" at 19.75,-9.675 h1.5
  text "1" at -21.25,-9.675 h1.5

## PCI2-V154A [mm] "Connector; CompactPCI; 100 Position; Vertical"
height 13.45
pads (154):
  round 1.3 hole 0.7: A1(-24,-4) A2(-22,-4) A3(-20,-4) A4(-18,-4) A5(-16,-4) A6(-14,-4) A7(-12,-4) A8(-10,-4) A9(-8,-4) A10(-6,-4) A11(-4,-4) A15(4,-4) A16(6,-4) A17(8,-4) A18(10,-4) A19(12,-4) A20(14,-4) A21(16,-4) A22(18,-4) A23(20,-4) A24(22,-4) A25(24,-4) B1(-24,-2) B2(-22,-2) B3(-20,-2) B4(-18,-2) B5(-16,-2) B6(-14,-2) B7(-12,-2) B8(-10,-2) B9(-8,-2) B10(-6,-2) B11(-4,-2) B15(4,-2) B16(6,-2) B17(8,-2) B18(10,-2) B19(12,-2) B20(14,-2) B21(16,-2) B22(18,-2) B23(20,-2) B24(22,-2) B25(24,-2) C1(-24,0) C2(-22,0) C3(-20,0) C4(-18,0) C5(-16,0) C6(-14,0) C7(-12,0) C8(-10,0) C9(-8,0) C10(-6,0) C11(-4,0) C15(4,0) C16(6,0) C17(8,0) C18(10,0) C19(12,0) C20(14,0) C21(16,0) C22(18,0) C23(20,0) C24(22,0) C25(24,0) D1(-24,2) D2(-22,2) D3(-20,2) D4(-18,2) D5(-16,2) D6(-14,2) D7(-12,2) D8(-10,2) D9(-8,2) D10(-6,2) D11(-4,2) D15(4,2) D16(6,2) D17(8,2) D18(10,2) D19(12,2) D20(14,2) D21(16,2) D22(18,2) D23(20,2) D24(22,2) D25(24,2) E1(-24,4) E2(-22,4) E3(-20,4) E4(-18,4) E5(-16,4) E6(-14,4) E7(-12,4) E8(-10,4) E9(-8,4) E10(-6,4) E11(-4,4) E15(4,4) E16(6,4) E17(8,4) E18(10,4) E19(12,4) E20(14,4) E21(16,4) E22(18,4) E23(20,4) E24(22,4) E25(24,4) F1(-24,6) F2(-22,6) F3(-20,6) F4(-18,6) F5(-16,6) F6(-14,6) F7(-12,6) F8(-10,6) F9(-8,6) F10(-6,6) F11(-4,6) F15(4,6) F16(6,6) F17(8,6) F18(10,6) F19(12,6) F20(14,6) F21(16,6) F22(18,6) F23(20,6) F24(22,6) F25(24,6) Z1(-24,-6) Z2(-22,-6) Z3(-20,-6) Z4(-18,-6) Z5(-16,-6) Z6(-14,-6) Z7(-12,-6) Z8(-10,-6) Z9(-8,-6) Z10(-6,-6) Z11(-4,-6) Z15(4,-6) Z16(6,-6) Z17(8,-6) Z18(10,-6) Z19(12,-6) Z20(14,-6) Z21(16,-6) Z22(18,-6) Z23(20,-6) Z24(22,-6) Z25(24,-6)
Top Overlay:
  lines w0.2: -25,-7.7 25,-7.7 25,7.7 -25,7.7 -25,-7.7
  text "f" at -26.475,5.225 h1.5
  text "e" at -26.475,3.5 h1.5
  text "d" at -26.475,1.5 h1.5
  text "c" at -26.475,-0.5 h1.5
  text "b" at -26.475,-2.5 h1.5
  text "a" at -26.475,-4.5 h1.5
  text "z" at -26.475,-6.5 h1.5
  text "25" at 22.75,-9.675 h1.5
  text "15" at 2.875,-9.675 h1.5
  text "1" at -24.25,-9.675 h1.5
  text "11" at -4.875,-9.675 h1.5

## PCI2-V175 [mm] "Connector; CompactPCI; 175 Position; Vertical"
height 13.45
pads (175):
  round 1.3 hole 0.7: A1(-24,-4) A2(-22,-4) A3(-20,-4) A4(-18,-4) A5(-16,-4) A6(-14,-4) A7(-12,-4) A8(-10,-4) A9(-8,-4) A10(-6,-4) A11(-4,-4) A12(-2,-4) A13(0,-4) A14(2,-4) A15(4,-4) A16(6,-4) A17(8,-4) A18(10,-4) A19(12,-4) A20(14,-4) A21(16,-4) A22(18,-4) A23(20,-4) A24(22,-4) A25(24,-4) B1(-24,-2) B2(-22,-2) B3(-20,-2) B4(-18,-2) B5(-16,-2) B6(-14,-2) B7(-12,-2) B8(-10,-2) B9(-8,-2) B10(-6,-2) B11(-4,-2) B12(-2,-2) B13(0,-2) B14(2,-2) B15(4,-2) B16(6,-2) B17(8,-2) B18(10,-2) B19(12,-2) B20(14,-2) B21(16,-2) B22(18,-2) B23(20,-2) B24(22,-2) B25(24,-2) C1(-24,0) C2(-22,0) C3(-20,0) C4(-18,0) C5(-16,0) C6(-14,0) C7(-12,0) C8(-10,0) C9(-8,0) C10(-6,0) C11(-4,0) C12(-2,0) C13(0,0) C14(2,0) C15(4,0) C16(6,0) C17(8,0) C18(10,0) C19(12,0) C20(14,0) C21(16,0) C22(18,0) C23(20,0) C24(22,0) C25(24,0) D1(-24,2) D2(-22,2) D3(-20,2) D4(-18,2) D5(-16,2) D6(-14,2) D7(-12,2) D8(-10,2) D9(-8,2) D10(-6,2) D11(-4,2) D12(-2,2) D13(0,2) D14(2,2) D15(4,2) D16(6,2) D17(8,2) D18(10,2) D19(12,2) D20(14,2) D21(16,2) D22(18,2) D23(20,2) D24(22,2) D25(24,2) E1(-24,4) E2(-22,4) E3(-20,4) E4(-18,4) E5(-16,4) E6(-14,4) E7(-12,4) E8(-10,4) E9(-8,4) E10(-6,4) E11(-4,4) E12(-2,4) E13(0,4) E14(2,4) E15(4,4) E16(6,4) E17(8,4) E18(10,4) E19(12,4) E20(14,4) E21(16,4) E22(18,4) E23(20,4) E24(22,4) E25(24,4) F1(-24,6) F2(-22,6) F3(-20,6) F4(-18,6) F5(-16,6) F6(-14,6) F7(-12,6) F8(-10,6) F9(-8,6) F10(-6,6) F11(-4,6) F12(-2,6) F13(0,6) F14(2,6) F15(4,6) F16(6,6) F17(8,6) F18(10,6) F19(12,6) F20(14,6) F21(16,6) F22(18,6) F23(20,6) F24(22,6) F25(24,6) Z1(-24,-6) Z2(-22,-6) Z3(-20,-6) Z4(-18,-6) Z5(-16,-6) Z6(-14,-6) Z7(-12,-6) Z8(-10,-6) Z9(-8,-6) Z10(-6,-6) Z11(-4,-6) Z12(-2,-6) Z13(0,-6) Z14(2,-6) Z15(4,-6) Z16(6,-6) Z17(8,-6) Z18(10,-6) Z19(12,-6) Z20(14,-6) Z21(16,-6) Z22(18,-6) Z23(20,-6) Z24(22,-6) Z25(24,-6)
Top Overlay:
  lines w0.2: -25,-7.7 -25,7.7 25,7.7 25,-7.7 -25,-7.7
  text "1" at -24.25,-9.675 h1.5
  text "25" at 22.75,-9.675 h1.5
  text "z" at -26.475,-6.5 h1.5
  text "a" at -26.475,-4.5 h1.5
  text "b" at -26.475,-2.5 h1.5
  text "c" at -26.475,-0.5 h1.5
  text "d" at -26.475,1.5 h1.5
  text "e" at -26.475,3.5 h1.5
  text "f" at -26.475,5.225 h1.5

## PCI2-V200 [mm] "Connector; CompactPCI; 200 Position; Vertical"
height 12
pads (200):
  round 1.3 hole 0.7: A1(-24,-7) A2(-22,-7) A3(-20,-7) A4(-18,-7) A5(-16,-7) A6(-14,-7) A7(-12,-7) A8(-10,-7) A9(-8,-7) A10(-6,-7) A11(-4,-7) A12(-2,-7) A13(0,-7) A14(2,-7) A15(4,-7) A16(6,-7) A17(8,-7) A18(10,-7) A19(12,-7) A20(14,-7) A21(16,-7) A22(18,-7) A23(20,-7) A24(22,-7) A25(24,-7) B1(-24,-5) B2(-22,-5) B3(-20,-5) B4(-18,-5) B5(-16,-5) B6(-14,-5) B7(-12,-5) B8(-10,-5) B9(-8,-5) B10(-6,-5) B11(-4,-5) B12(-2,-5) B13(0,-5) B14(2,-5) B15(4,-5) B16(6,-5) B17(8,-5) B18(10,-5) B19(12,-5) B20(14,-5) B21(16,-5) B22(18,-5) B23(20,-5) B24(22,-5) B25(24,-5) C1(-24,-3) C2(-22,-3) C3(-20,-3) C4(-18,-3) C5(-16,-3) C6(-14,-3) C7(-12,-3) C8(-10,-3) C9(-8,-3) C10(-6,-3) C11(-4,-3) C12(-2,-3) C13(0,-3) C14(2,-3) C15(4,-3) C16(6,-3) C17(8,-3) C18(10,-3) C19(12,-3) C20(14,-3) C21(16,-3) C22(18,-3) C23(20,-3) C24(22,-3) C25(24,-3) D1(-24,-1) D2(-22,-1) D3(-20,-1) D4(-18,-1) D5(-16,-1) D6(-14,-1) D7(-12,-1) D8(-10,-1) D9(-8,-1) D10(-6,-1) D11(-4,-1) D12(-2,-1) D13(0,-1) D14(2,-1) D15(4,-1) D16(6,-1) D17(8,-1) D18(10,-1) D19(12,-1) D20(14,-1) D21(16,-1) D22(18,-1) D23(20,-1) D24(22,-1) D25(24,-1) E1(-24,1) E2(-22,1) E3(-20,1) E4(-18,1) E5(-16,1) E6(-14,1) E7(-12,1) E8(-10,1) E9(-8,1) E10(-6,1) E11(-4,1) E12(-2,1) E13(0,1) E14(2,1) E15(4,1) E16(6,1) E17(8,1) E18(10,1) E19(12,1) E20(14,1) E21(16,1) E22(18,1) E23(20,1) E24(22,1) E25(24,1) F1(-24,3) F2(-22,3) F3(-20,3) F4(-18,3) F5(-16,3) F6(-14,3) F7(-12,3) F8(-10,3) F9(-8,3) F10(-6,3) F11(-4,3) F12(-2,3) F13(0,3) F14(2,3) F15(4,3) F16(6,3) F17(8,3) F18(10,3) F19(12,3) F20(14,3) F21(16,3) F22(18,3) F23(20,3) F24(22,3) F25(24,3) G1(-24,5) G2(-22,5) G3(-20,5) G4(-18,5) G5(-16,5) G6(-14,5) G7(-12,5) G8(-10,5) G9(-8,5) G10(-6,5) G11(-4,5) G12(-2,5) G13(0,5) G14(2,5) G15(4,5) G16(6,5) G17(8,5) G18(10,5) G19(12,5) G20(14,5) G21(16,5) G22(18,5) G23(20,5) G24(22,5) G25(24,5) H1(-24,7) H2(-22,7) H3(-20,7) H4(-18,7) H5(-16,7) H6(-14,7) H7(-12,7) H8(-10,7) H9(-8,7) H10(-6,7) H11(-4,7) H12(-2,7) H13(0,7) H14(2,7) H15(4,7) H16(6,7) H17(8,7) H18(10,7) H19(12,7) H20(14,7) H21(16,7) H22(18,7) H23(20,7) H24(22,7) H25(24,7)
Top Overlay:
  lines w0.2: -25,-8.7 -25,8.7 25,8.7 25,-8.7 -25,-8.7
  text "a" at -26.475,-7.5 h1.5
  text "h" at -26.475,6.5 h1.5
  text "1" at -24.25,-10.675 h1.5
  text "25" at 22.75,-10.675 h1.5
  text "b" at -26.475,-5.5 h1.5
  text "c" at -26.475,-3.5 h1.5
  text "d" at -26.475,-1.5 h1.5
  text "e" at -26.475,0.5 h1.5
  text "f" at -26.475,2.225 h1.5
  text "g" at -26.475,4.488 h1.5

## PCI2.54-2H56 [mm] "Connector; CompactPCI; 24 Position; Right Angle"
height 11.1
pads (58):
  round 4.3 hole 2.79: 33(44.45,-3.81) 34(-44.45,-3.81)
  round 1.6 hole 1: A1(39.37,3.81) A3(34.29,3.81) A4(31.75,3.81) A6(26.67,3.81) A7(24.13,3.81) A9(19.05,3.81) A10(16.51,3.81) A12(11.43,3.81) A13(8.89,3.81) A14(6.35,3.81) A15(3.81,3.81) A16(1.27,3.81) A17(-1.27,3.81) A18(-3.81,3.81) A19(-6.35,3.81) A20(-8.89,3.81) A21(-11.43,3.81) A23(-16.51,3.81) A24(-19.05,3.81) A26(-24.13,3.81) A27(-26.67,3.81) A29(-31.75,3.81) A30(-34.29,3.81) A32(-39.37,3.81) B13(8.89,1.27) B14(6.35,1.27) B15(3.81,1.27) B16(1.27,1.27) B17(-1.27,1.27) B18(-3.81,1.27) B19(-6.35,1.27) B20(-8.89,1.27) C1(39.37,-1.27) C3(34.29,-1.27) C4(31.75,-1.27) C6(26.67,-1.27) C7(24.13,-1.27) C9(19.05,-1.27) C10(16.51,-1.27) C12(11.43,-1.27) C13(8.89,-1.27) C14(6.35,-1.27) C15(3.81,-1.27) C16(1.27,-1.27) C17(-1.27,-1.27) C18(-3.81,-1.27) C19(-6.35,-1.27) C20(-8.89,-1.27) C21(-11.43,-1.27) C23(-16.51,-1.27) C24(-19.05,-1.27) C26(-24.13,-1.27) C27(-26.67,-1.27) C29(-31.75,-1.27) C30(-34.29,-1.27) C32(-39.37,-1.27)
Top Overlay:
  lines w0.2: -47,-6.68 -47,6.29 47,6.29 47,-6.68 -47,-6.68
  text "20" at -10.14,-3.945 h1.5
  text "13" at 7.765,-3.945 h1.5
  text "32" at -40.62,-3.945 h1.5
  text "c" at -41.545,-1.77 h1.5
  text "b" at -41.545,0.77 h1.5
  text "a" at -41.545,3.31 h1.5
  text "1" at 39.12,-3.945 h1.5

## PCI2.54-2V31 [mm] "Connector; CompactPCI; 24 Position; Vertical"
height 14.83
pads (33):
  round 4.6 hole 3: 2(36.83,0) 5(29.21,0) 11(13.97,0) 22(-13.97,0) 25(-21.59,0) 28(-29.21,0) 31(-36.83,0)
  round 4.3 hole 2.79: 33(45.01,0.3) 34(-45.01,0.3)
  round 1.6 hole 1: A13(8.89,2.54) A14(6.35,2.54) A15(3.81,2.54) A16(1.27,2.54) A17(-1.27,2.54) A18(-3.81,2.54) A19(-6.35,2.54) A20(-8.89,2.54) B13(8.89,0) B14(6.35,0) B15(3.81,0) B16(1.27,0) B17(-1.27,0) B18(-3.81,0) B19(-6.35,0) B20(-8.89,0) C13(8.89,-2.54) C14(6.35,-2.54) C15(3.81,-2.54) C16(1.27,-2.54) C17(-1.27,-2.54) C18(-3.81,-2.54) C19(-6.35,-2.54) C20(-8.89,-2.54)
Top Overlay:
  lines w0.2: -47.6,-5.3 47.6,-5.3 47.6,5.3 -47.6,5.3 -47.6,-5.3
  text "20" at -10.14,-7.275 h1.5
  text "13" at 7.765,-7.275 h1.5
  text "c" at -11.065,-3.04 h1.5
  text "b" at -11.065,-0.5 h1.5
  text "a" at -11.065,2.04 h1.5

## PCI2.54-2V31A [mm] "Connector; CompactPCI; 24 Position; Vertical"
height 12.6
pads (33):
  round 4.73 hole 3.13: 2(36.83,0) 5(29.21,0) 11(13.97,0) 22(-13.97,0) 25(-21.59,0) 28(-29.21,0) 31(-36.83,0)
  round 4.3 hole 2.79: 33(45.01,0.3) 34(-45.01,0.3)
  round 1.75 hole 1.15: A13(8.89,2.54) A14(6.35,2.54) A15(3.81,2.54) A16(1.27,2.54) A17(-1.27,2.54) A18(-3.81,2.54) A19(-6.35,2.54) A20(-8.89,2.54) B13(8.89,0) B14(6.35,0) B15(3.81,0) B16(1.27,0) B17(-1.27,0) B18(-3.81,0) B19(-6.35,0) B20(-8.89,0) C13(8.89,-2.54) C14(6.35,-2.54) C15(3.81,-2.54) C16(1.27,-2.54) C17(-1.27,-2.54) C18(-3.81,-2.54) C19(-6.35,-2.54) C20(-8.89,-2.54)
Top Overlay:
  lines w0.2: -47.6,-5.3 47.6,-5.3 47.6,5.3 -47.6,5.3 -47.6,-5.3
  text "20" at -10.14,-7.275 h1.5
  text "13" at 7.765,-7.275 h1.5
  text "c" at -11.14,-3.04 h1.5
  text "b" at -11.14,-0.5 h1.5
  text "a" at -11.14,2.04 h1.5